# Altium footprint library PcbLib1.PcbLib: 18 footprints (part 2 of 2)
Each footprint in its own frame and in the unit in brackets; x right, y up, seen from the top. Pads: shape width x height; smd on the part's side, far side on the other; paste and mask are expansions set on the pad; w line width, h text height; cw(c..) or ccw(c..) is an arc to the next point about the centre after c.
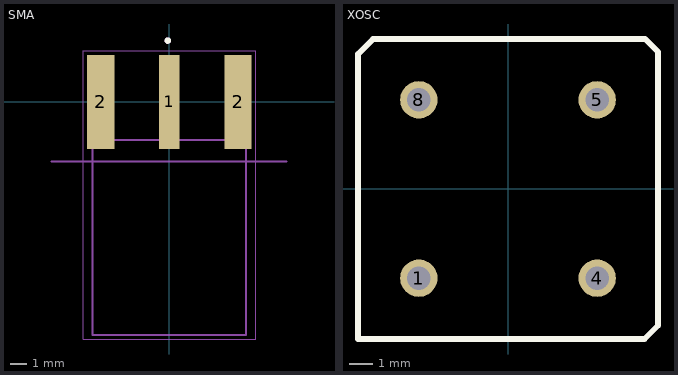
[diagram p1: the footprints below, top view; thin cyan lines are the x and y axes]

## SMA [mil]
pads (3):
  rect 50x230 smd: 1(0,0)
  rect 67x230 smd: 2(-167.5,0) 2(167.5,0)
Top Overlay:
  circle w7.87: c-3.94,149.61 r3.94
Mechanical 13:
  circle w7.87: c-3.94,149.61 r3.94
  lines w5: -287.4,-145 -187.5,-145 ; 285.43,-145 187.5,-145 ; -187.5,-145 -187.5,-568.5 187.5,-568.5 187.5,-145 ; -187.5,-145 187.5,-145 ; -187.5,-145 -187.5,-93.5 187.5,-93.5 187.5,-145
  text "PCB Edge" at 253.94,-131.89 h50
Mechanical 15:
  lines w1.97: -210.84,-578.74 210.84,-578.74 210.84,124.84 -210.84,124.84 -210.84,-578.74
3D body "SMA_Launch_RibbedFlange.SLDPRT": height 136.31, standoff -175.69, extent -187.99,-571.34 187.01,-11.34

## XOSC [mm]
pads (4):
  round 1.6 hole 1: 1(-3.825,-3.825) 4(3.8,-3.825) 5(3.8,3.8) 8(-3.825,3.8)
Top Overlay:
  lines w0.254: -6.425,-6.425 -6.425,5.75 -5.775,6.4 5.85,6.4 6.4,5.85 6.4,-5.85 5.825,-6.425 -6.425,-6.425